# EAGLE library part TL074IDT (library lib)
Low noise JFET quad operational amplifier
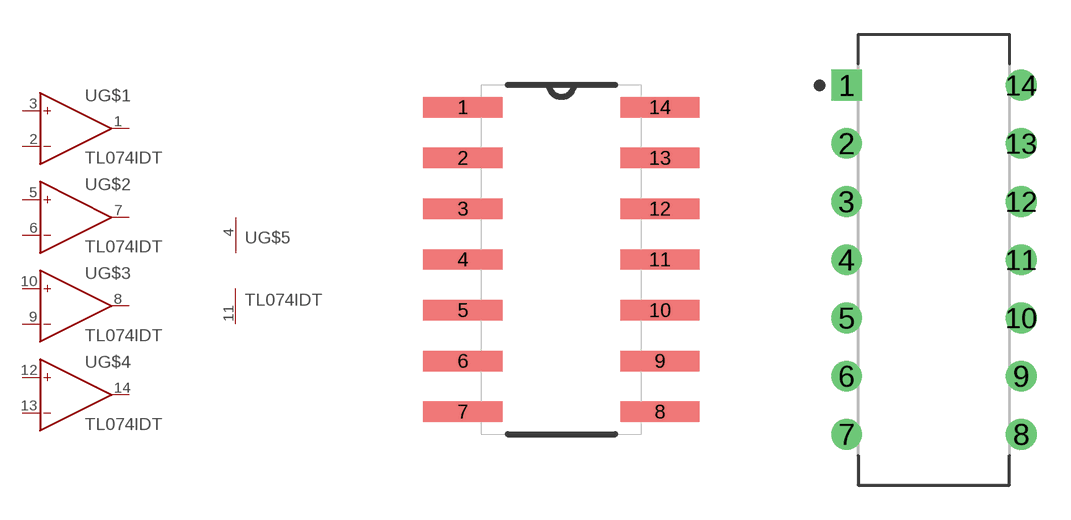
[diagram p0: symbol with the pads of SOIC127P600X175-14N; footprints SOIC127P600X175-14N, DIP762W53P254L1969H508Q14B]

Designator prefix U; gates G$1=OP G$2=OP G$3=OP G$4=OP G$5=PWR+-

## TL074IDT (LINK: https://www.mouser.se/ProductDetail/STMicroelectronics/TL074IDT?qs=xiMLMHqF5JUaM%252BCWVyDQFA%3D%3D; MFR: STMicroelectronics; MFR-NR: TL074IDT; SUPPLIER: Mouser)  [SOIC127P600X175-14N]
1  G$1:OUT  out
2  G$1:IN-  in
3  G$1:IN+  in
4  G$5:V+  pwr
5  G$2:IN+  in
6  G$2:IN-  in
7  G$2:OUT  out
8  G$3:OUT  out
9  G$3:IN-  in
10  G$3:IN+  in
11  G$5:V-  pwr
12  G$4:IN+  in
13  G$4:IN-  in
14  G$4:OUT  out

## TL074IDTPDIP-14 (LINK: https://eu.mouser.com/ProductDetail/Texas-Instruments/TL074CN?qs=%2Fha2pyFadui04%2FQQ4Z%2F%252B8cpHvrlLCfjGhhp9sdrT5Zo%3D; MPN: TL074CN; SUPPLIER: Mouser)  [DIP762W53P254L1969H508Q14B]
Pads as for SOIC127P600X175-14N

## Footprint SOIC127P600X175-14N (pad centres in mm)
smd 1.981 x 0.508: 1 -2.464,3.81; 2 -2.464,2.54; 3 -2.464,1.27; 4 -2.464,0; 5 -2.464,-1.27; 6 -2.464,-2.54; 7 -2.464,-3.81; 8 2.464,-3.81; 9 2.464,-2.54; 10 2.464,-1.27; 11 2.464,0; 12 2.464,1.27; 13 2.464,2.54; 14 2.464,3.81

## Footprint DIP762W53P254L1969H508Q14B (pad centres in mm)
14-DIP, 2.54 mm (0.10 in) pitch, 7.62 mm (0.30 in) span, 19.69 X 6.60 X 5.08 mm body 14-pin DIP package with 2.54 mm (0.10 in) pitch, 7.62 mm (0.30 in) span with body size 19.69 X 6.60 X 5.08 mm
drill 0.743 pad 1.343 square: 1 -3.81,7.62
drill 0.743 pad 1.343: 2 -3.81,5.08; 3 -3.81,2.54; 4 -3.81,0; 5 -3.81,-2.54; 6 -3.81,-5.08; 7 -3.81,-7.62; 8 3.81,-7.62; 9 3.81,-5.08; 10 3.81,-2.54; 11 3.81,0; 12 3.81,2.54; 13 3.81,5.08; 14 3.81,7.62